# EAGLE library part RP-2040 (library ds_ic_mcu)
Key features: • Dual ARM Cortex-M0+ @ 133MHz • 264kB on-chip SRAM in six independent banks • Support for up to 16MB of off-chip Flash memory via dedicated QSPI bus • DMA controller • Fully-connected AHB crossbar • Interpolator and integer divider peripherals • On-chip programmable LDO to generate core voltage • 2 on-chip PLLs to generate USB and core clocks • 30 GPIO pins, 4 of which can be used as analogue inputs • Peripherals ◦2 UARTs ◦2 SPI controllers ◦2 I2C controllers ◦16 PWM channels ◦USB 1.1 controller and PHY, with host and device support ◦8 PIO state machines
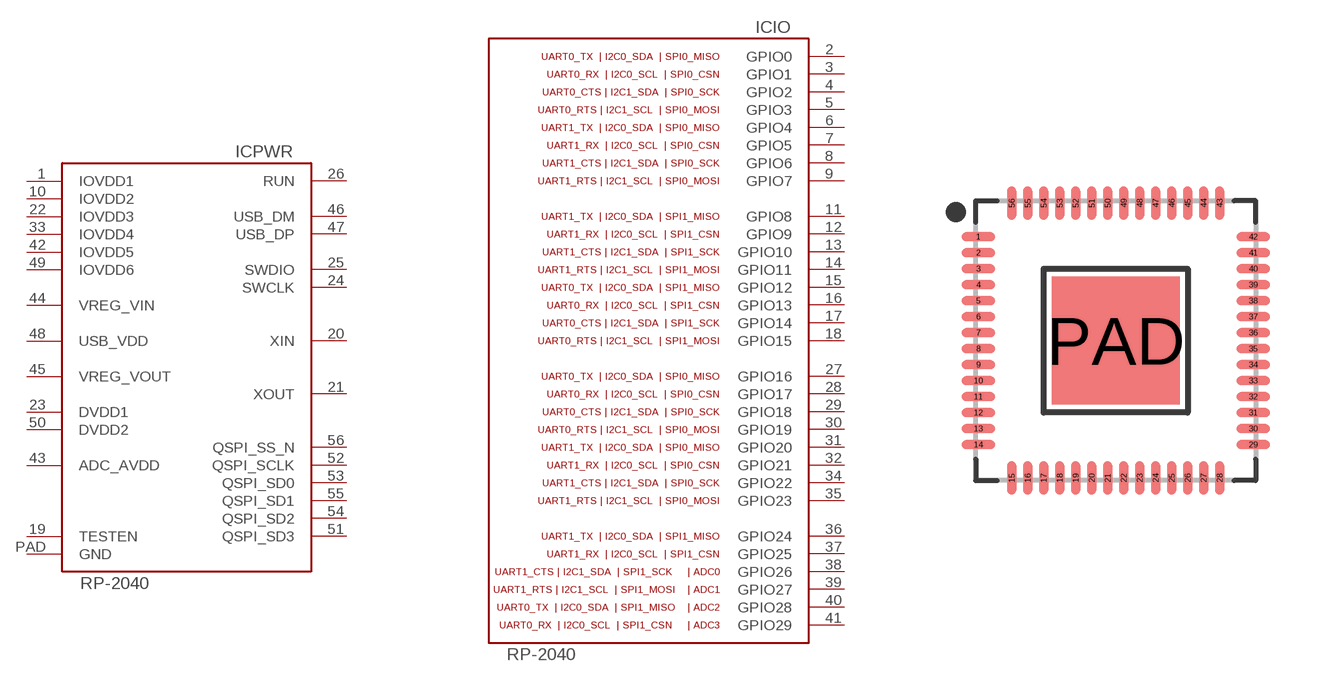
[diagram p17: symbol with the pads of QFN56; footprint QFN56]

Designator prefix IC; gates PWR=RP2040-PWR IO=RP2040-IO

## RP-2040 (DATASHEET: https://datasheets.raspberrypi.com/rp2040/rp2040-datasheet.pdf; DESCRIPTION: 133MHz LQFN-56(7x7) Microcontrollers (MCU/MPU/SOC) ROHS; LCSC_PART: C2040; VALUE: RP2040)  [QFN56]
1  PWR:IOVDD1  pwr
2  IO:GPIO0
3  IO:GPIO1
4  IO:GPIO2
5  IO:GPIO3
6  IO:GPIO4
7  IO:GPIO5
8  IO:GPIO6
9  IO:GPIO7
10  PWR:IOVDD2  pwr
11  IO:GPIO8
12  IO:GPIO9
13  IO:GPIO10
14  IO:GPIO11
15  IO:GPIO12
16  IO:GPIO13
17  IO:GPIO14
18  IO:GPIO15
19  PWR:TESTEN
20  PWR:XIN  in
21  PWR:XOUT  out
22  PWR:IOVDD3  pwr
23  PWR:DVDD1  pwr
24  PWR:SWCLK  in
25  PWR:SWDIO
26  PWR:RUN  in
27  IO:GPIO16
28  IO:GPIO17
29  IO:GPIO18
30  IO:GPIO19
31  IO:GPIO20
32  IO:GPIO21
33  PWR:IOVDD4  pwr
34  IO:GPIO22
35  IO:GPIO23
36  IO:GPIO24
37  IO:GPIO25
38  IO:GPIO26
39  IO:GPIO27
40  IO:GPIO28
41  IO:GPIO29
42  PWR:IOVDD5  pwr
43  PWR:ADC_AVDD  pwr
44  PWR:VREG_VIN  pwr
45  PWR:VREG_VOUT  pwr
46  PWR:USB_DM
47  PWR:USB_DP
48  PWR:USB_VDD  pwr
49  PWR:IOVDD6  pwr
50  PWR:DVDD2  pwr
51  PWR:QSPI_SD3
52  PWR:QSPI_SCLK
53  PWR:QSPI_SD0
54  PWR:QSPI_SD2
55  PWR:QSPI_SD1
56  PWR:QSPI_SS_N
PAD  PWR:GND  pwr

## Footprint QFN56 (pad centres in mm)
56-QFN, 0.40 mm pitch, 7.00 X 7.00 X 1.00 mm body, 5.10 X 5.10 mm thermal pad 56-pin QFN package with 0.40 mm pitch with body size 7.00 X 7.00 X 1.00 mm and thermal pad size 5.10 X 5.10 mm
smd 0.837 x 0.22: 1 -3.437,2.6; 2 -3.437,2.2; 3 -3.437,1.8; 4 -3.437,1.4; 5 -3.437,1; 6 -3.437,0.6; 7 -3.437,0.2; 8 -3.437,-0.2; 9 -3.437,-0.6; 10 -3.437,-1; 11 -3.437,-1.4; 12 -3.437,-1.8; 13 -3.437,-2.2; 14 -3.437,-2.6; 29 3.437,-2.6; 30 3.437,-2.2; 31 3.437,-1.8; 32 3.437,-1.4; 33 3.437,-1; 34 3.437,-0.6; 35 3.437,-0.2; 36 3.437,0.2; 37 3.437,0.6; 38 3.437,1; 39 3.437,1.4; 40 3.437,1.8; 41 3.437,2.2; 42 3.437,2.6
smd 0.22 x 0.837: 15 -2.6,-3.437; 16 -2.2,-3.437; 17 -1.8,-3.437; 18 -1.4,-3.437; 19 -1,-3.437; 20 -0.6,-3.437; 21 -0.2,-3.437; 22 0.2,-3.437; 23 0.6,-3.437; 24 1,-3.437; 25 1.4,-3.437; 26 1.8,-3.437; 27 2.2,-3.437; 28 2.6,-3.437; 43 2.6,3.437; 44 2.2,3.437; 45 1.8,3.437; 46 1.4,3.437; 47 1,3.437; 48 0.6,3.437; 49 0.2,3.437; 50 -0.2,3.437; 51 -0.6,3.437; 52 -1,3.437; 53 -1.4,3.437; 54 -1.8,3.437; 55 -2.2,3.437; 56 -2.6,3.437
smd 3.2 x 3.2: PAD 0,0